# Altium schematic symbol library Sheye-Relay.SchLib: 17 symbols
Pins are listed as number, name and electrical type; pins without a type are passive.

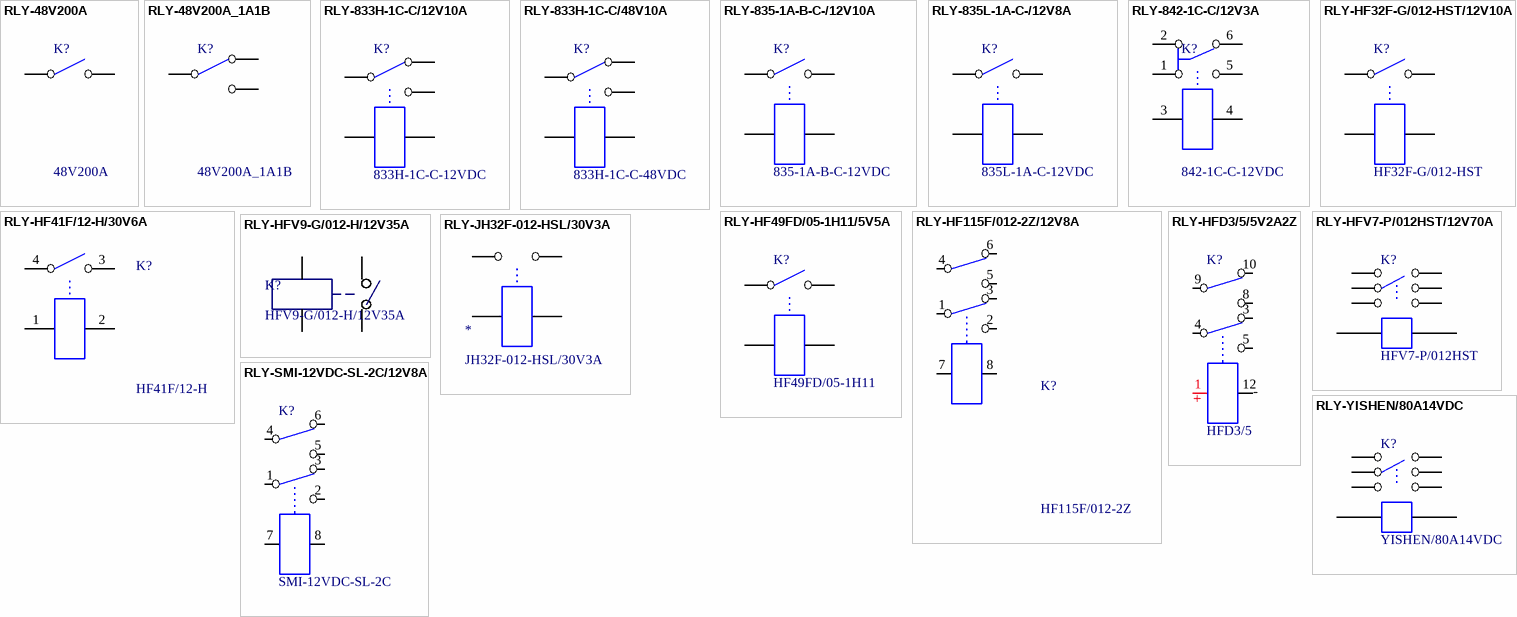
[diagram p0: symbols RLY-48V200A to RLY-YISHEN/80A14VDC]

## RLY-48V200A
designator K?, comment 48V200A
直流接触器; 生产商: 宏发继电器; 规格型号: 48V200A; 备注: *; 供应商: *
pins: 6, 8

## RLY-48V200A_1A1B
designator K?, comment 48V200A_1A1B
直流接触器; 生产商: 宏发继电器; 货品编码: 无样品无编码; 规格型号: 48V200A_1A1B; 备注: *; 供应商: *
pins: 6, 6, 8

## RLY-833H-1C-C/12V10A
designator K?, comment 833H-1C-C-12VDC
继电器-功率继电器; 生产商: 松川; 货品编码: 362006; 规格型号: 833H-1C-C-12VDC; 备注: *; 供应商: *
footprint RLY-833H-1C-C
pins: 1, 2, 3, 4, 5

## RLY-833H-1C-C/48V10A
designator K?, comment 833H-1C-C-48VDC
继电器-功率继电器; 生产商: 松川; 货品编码: 362001; 规格型号: 833H-1C-C-48VDC; 备注: *; 供应商: *
footprint RLY-833H-1C-C
pins: 1, 2, 3, 4, 5

## RLY-835-1A-B-C-/12V10A
designator K?, comment 835-1A-B-C-12VDC
继电器-功率继电器; 生产商: 松川继电器; 货品编码: 362028; 备注: *; 供应商: *; 规格型号: 835-1A-B-C-12VDC
footprint RLY-835L-1A-C
pins: 1, 2, 3, 4

## RLY-835L-1A-C-/12V8A
designator K?, comment 835L-1A-C-12VDC
继电器-功率继电器; 生产商: 松川继电器; 货品编码: 362005; 备注: *; 供应商: *; 规格型号: 835L-1A-C-12VDC
footprint RLY-835L-1A-C
pins: 1, 2, 3, 4

## RLY-842-1C-C/12V3A
designator K?, comment 842-1C-C-12VDC
继电器-功率继电器; 生产商: 松川继电器; 货品编码: 362004; 备注: *; 供应商: *; 规格型号: 842-1C-C-12VDC
footprint RLY-842-1C-C
pins: 1, 2, 3, 4, 5, 6

## RLY-HF32F-G/012-HST/12V10A
designator K?, comment HF32F-G/012-HST
继电器-功率继电器; 生产商: 宏发继电器; 规格型号: HF32F-G/012-HST/12V10A; 货品编码: 362012; 供应商: *; 备注: *
footprint RLY-HF32F-G/012-HST (HF32F-G/012-HST)
pins: 1, 2, 3, 4

## RLY-HF41F/12-H/30V6A
designator K?, comment HF41F/12-H
继电器-功率继电器; 生产商: 宏发继电器; 规格型号: RLY-HF41F/12-H/30V6A; 货品编码: 无样品无编码; 供应商: *; 备注: *
footprint RLY-HF41F/12-H
pins: 1, 2, 3, 4

## RLY-HF49FD/05-1H11/5V5A
designator K?, comment HF49FD/05-1H11
继电器-功率继电器; 生产商: 宏发继电器; 规格型号: HF49FD/05-1H11/5V5A; 货品编码: 362023; 备注: *; 供应商: *
footprint RLY-HF49FD/05-1H11 (HF49FD/05-1H11)
pins: 1, 2, 6, 8

## RLY-HF115F/012-2Z/12V8A
designator K?, comment HF115F/012-2Z
继电器-功率继电器; 生产商: 宏发继电器; 规格型号: HF115F/012-2Z/12V8A; 货品编码: 无样品无编码; 供应商: *; 备注: *
footprint RLY-HF115F/012-2Z/12V8A
pins: 1, 2, 3, 4, 5, 6, 7, 8

## RLY-HFD3/5/5V2A2Z
designator K?, comment HFD3/5
继电器-信号继电器; 生产商: 宏发继电器; 规格型号: HFD3/5/5V2A2Z; 货品编码: 无样品无编码; 供应商: *; 备注: *
footprint RLY-HFD3/5 (HFD3/5)
pins: 1, 3, 4, 5, 8, 9, 10, 12
text: -; +

## RLY-HFV7-P/012HST/12V70A
designator K?, comment HFV7-P/012HST
继电器-汽车继电器; 生产商: 宏发继电器; 规格型号: HFV7-P/012HST/12V70A; 货品编码: 362015; 供应商: *; 备注: *
footprint RLY-HFV7-P/012HST (HFV7-P/012HST)
pins: 1, 1, 1, 2, 2, 2, 3, 4

## RLY-HFV9-G/012-H/12V35A
designator K?, comment HFV9-G/012-H/12V35A
继电器-汽车继电器; 生产商: 宏发; 货品编码: 362029; 备注: *; 供应商: *; 规格型号: HFV9-G/012-H/12V35A
footprint RLY-HFV9-G/012-H
pins: 30, 85, 86, 87

## RLY-JH32F-012-HSL/30V3A
designator *, comment JH32F-012-HSL/30V3A
继电器-功率继电器; 货品编码: 362002; 规格型号: JH32F-012-HSL/30VDC3A/125VAC3A/250VAC5A
footprint RLY-835L-1A-C
pins: 1, 2, 3, 4

## RLY-SMI-12VDC-SL-2C/12V8A
designator K?, comment SMI-12VDC-SL-2C
继电器-功率继电器; 货品编码: 362008; 规格型号: SMI-12VDC-SL-2C; 生产商: *; 供应商: *; 备注: *
footprint RLY-SMI-12VDC-SL-2C (SMI-12VDC-SL-2C)
pins: 1, 2, 3, 4, 5, 6, 7, 8

## RLY-YISHEN/80A14VDC
designator K?, comment YISHEN/80A14VDC
继电器-汽车继电器; 生产商: YISHEN; 货品编码: 无样品无编码; 规格型号: YISHEN/80A14VDC; 供应商: *; 备注: *
footprint RLY-YISHEN/80A14VDC
pins: 1, 1, 1, 2, 2, 2, 3, 4